# EAGLE library part TB6560AHQ (library samroesch)
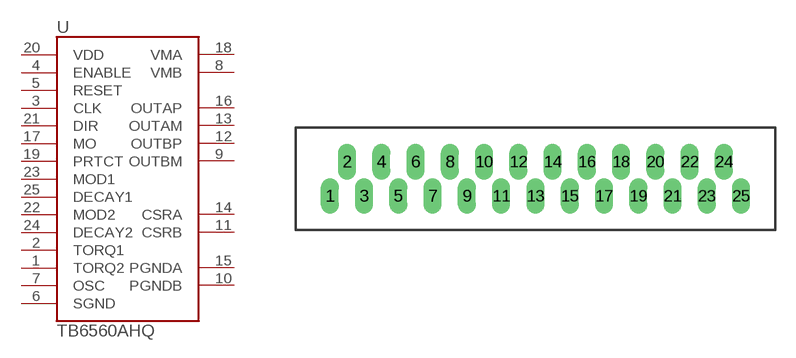
[diagram p0: symbol with the pads of HZIP25-P-1.27; footprint HZIP25-P-1.27]

Designator prefix -

## TB6560AHQAHQ  [HZIP25-P-1.27]
1  TORQ2
2  TORQ1
3  CLK
4  ENABLE
5  RESET
6  SGND
7  OSC
8  VMB
9  OUTBM
10  PGNDB
11  CSRB
12  OUTBP
13  OUTAM
14  CSRA
15  PGNDA
16  OUTAP
17  MO
18  VMA
19  PRTCT
20  VDD
21  DIR
22  MOD2
23  MOD1
24  DECAY2
25  DECAY1

## Footprint HZIP25-P-1.27 (pad centres in mm)
drill 0.813 long: 1 -15.24,-1.27; 2 -13.97,1.27; 3 -12.7,-1.27; 4 -11.43,1.27; 5 -10.16,-1.27; 6 -8.89,1.27; 7 -7.62,-1.27; 8 -6.35,1.27; 9 -5.08,-1.27; 10 -3.81,1.27; 11 -2.54,-1.27; 12 -1.27,1.27; 13 0,-1.27; 14 1.27,1.27; 15 2.54,-1.27; 16 3.81,1.27; 17 5.08,-1.27; 18 6.35,1.27; 19 7.62,-1.27; 20 8.89,1.27; 21 10.16,-1.27; 22 11.43,1.27; 23 12.7,-1.27; 24 13.97,1.27; 25 15.24,-1.27